# Altium schematic symbol library Schlib.SchLib: 13 symbols
Pins are listed as number, name and electrical type; pins without a type are passive.

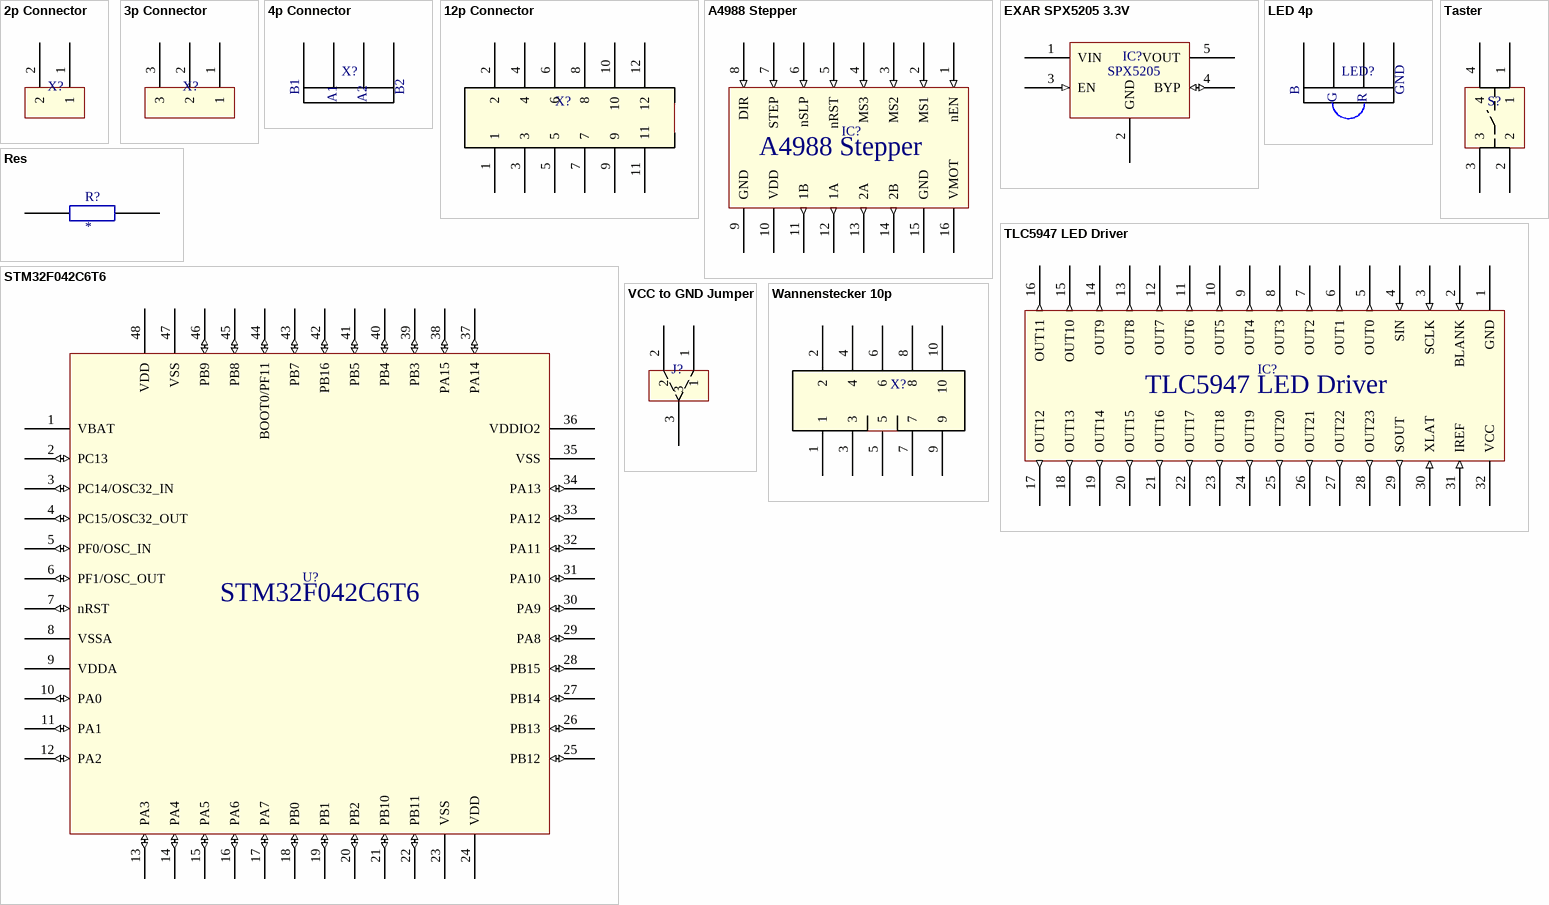
[diagram p0: symbols 2p Connector to Wannenstecker 10p]

## 2p Connector
designator X?  (value not drawn)
footprint 2p 2.54 pitch
footprint 2p 2.54 pitch, diode
pins: 1, 2

## 3p Connector
designator X?  (value not drawn)
footprint 3p 2.54 pitch
pins: 1, 2, 3

## 4p Connector
designator X?  (value not drawn)
footprint 4p 2.54 pitch Motor Connector
pins: 1, 2, 3, 4
text: B1; B2; A1; A2

## 12p Connector
designator X?  (value not drawn)
footprint 12p Wurth 690 367 28 12 76
pins: 1, 2, 3, 4, 5, 6, 7, 8, 9, 10, 11, 12

## A4988 Stepper
designator IC?  (value not drawn)
footprint A4988 Stepper (Stepper Driver)
pins: 1 nEN (in), 2 MS1 (in), 3 MS2 (in), 4 MS3 (in), 5 nRST (in), 6 nSLP (in), 7 STEP (in), 8 DIR (in), 9 GND (power), 10 VDD (power), 11 1B (out), 12 1A (out), 13 2A (out), 14 2B (out), 15 GND (power), 16 VMOT (power)

## EXAR SPX5205 3.3V
designator IC?  (value not drawn)
footprint SO-G5/P.95 (SOT-23/SC-74A; 5 Leads; Body 3.1 x 3 mm, inc. leads (LxW max))
pins: 1 VIN (power), 2 GND (power), 3 EN (in), 4 BYP (io), 5 VOUT (power)
text: SPX5205

## LED 4p
designator LED?  (value not drawn)
footprint 4p 2.54 pitch LED
pins: 1, 2, 3, 4
text: B; GND; G; R

## Res
designator R?
Value: *
footprint Res 0603 (Chip Resistor, 2-Leads, 0603, IPC Medium Density)
pins: 1, 2

## STM32F042C6T6
designator U?  (value not drawn)
footprint LQFP48 (LQFP, 48-Leads, Body 7.00x7.00mm, STM32F042C6T6)
pins: 1 VBAT (power), 2 PC13 (io), 3 PC14/OSC32_IN (io), 4 PC15/OSC32_OUT (io), 5 PF0/OSC_IN (io), 6 PF1/OSC_OUT (io), 7 nRST (io), 8 VSSA (power), 9 VDDA (power), 10 PA0 (io), 11 PA1 (io), 12 PA2 (io), 13 PA3 (io), 14 PA4 (io), 15 PA5 (io), 16 PA6 (io), 17 PA7 (io), 18 PB0 (io), 19 PB1 (io), 20 PB2 (io), 21 PB10 (io), 22 PB11 (io), 23 VSS (power), 24 VDD (power), 25 PB12 (io), 26 PB13 (io), 27 PB14 (io), 28 PB15 (io), 29 PA8 (io), 30 PA9 (io), 31 PA10 (io), 32 PA11 (io), 33 PA12 (io), 34 PA13 (io), 35 VSS (power), 36 VDDIO2 (power), 37 PA14 (io), 38 PA15 (io), 39 PB3 (io), 40 PB4 (io), 41 PB5 (io), 42 PB16 (io), 43 PB7 (io), 44 BOOT0/PF11 (io), 45 PB8 (io), 46 PB9 (io), 47 VSS (power), 48 VDD (power)

## Taster
designator S?  (value not drawn)
footprint Taster
pins: 1, 2, 3, 4

## TLC5947 LED Driver
designator IC?  (value not drawn)
footprint TSOP 32Pin (TSOP, 32-Leads, TLC5947, Body 11.00x6.10mm, Pitch 0.65mm, Thermal Pad 4.36x4.11mm, IPC Medium Density)
pins: 1 GND (power), 2 BLANK (in), 3 SCLK (in), 4 SIN (in), 5 OUT0 (out), 6 OUT1 (out), 7 OUT2 (out), 8 OUT3 (out), 9 OUT4 (out), 10 OUT5 (out), 11 OUT6 (out), 12 OUT7 (out), 13 OUT8 (out), 14 OUT9 (out), 15 OUT10 (out), 16 OUT11 (out), 17 OUT12 (out), 18 OUT13 (out), 19 OUT14 (out), 20 OUT15 (out), 21 OUT16 (out), 22 OUT17 (out), 23 OUT18 (out), 24 OUT19 (out), 25 OUT20 (out), 26 OUT21 (out), 27 OUT22 (out), 28 OUT23 (out), 29 SOUT (out), 30 XLAT (in), 31 IREF (in), 32 VCC (power)

## VCC to GND Jumper
designator J?  (value not drawn)
footprint VCC to GND Jumper
pins: 1, 2, 3

## Wannenstecker 10p
designator X?  (value not drawn)
footprint Wannenstecker 10p (Connector, 10p)
pins: 1, 2, 3, 4, 5, 6, 7, 8, 9, 10